# Altium footprint library Chip resistors.PcbLib: 36 footprints (part 3 of 3)
Each footprint in its own frame and in the unit in brackets; x right, y up, seen from the top. Pads: shape width x height; smd on the part's side, far side on the other; paste and mask are expansions set on the pad; w line width, h text height; cw(c..) or ccw(c..) is an arc to the next point about the centre after c.
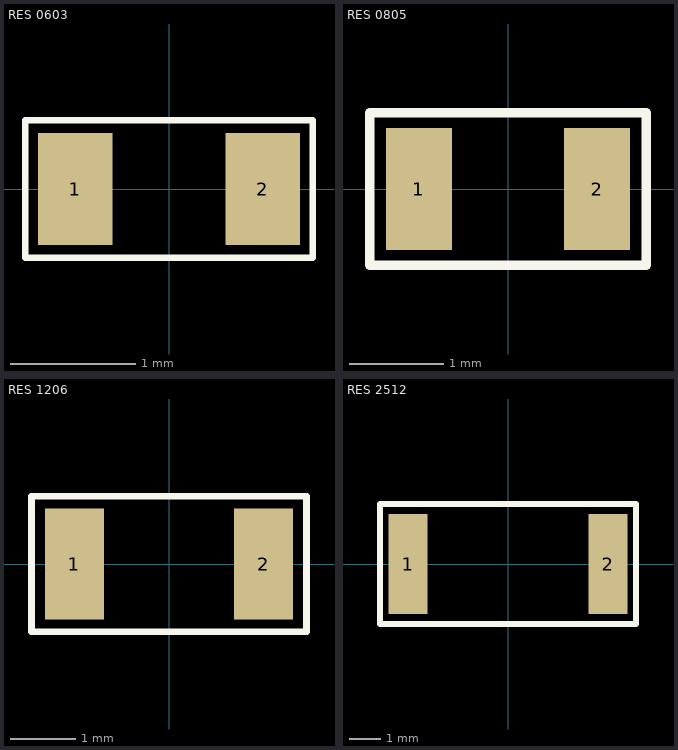
[diagram p2: the footprints below, top view; thin cyan lines are the x and y axes]

## RES 0603 [mm]
height 0.5
pads (2):
  rect 0.6x0.9 smd mask+0.05: 1(-0.75,0) 2(0.75,0)
Top Overlay:
  lines w0.05: -1.15,-0.55 1.15,-0.55 1.15,0.55 -1.15,0.55 -1.15,-0.55

## RES 0805 [mm] "Resistor 0805"
height 1
pads (2):
  rect 0.7x1.3 smd: 1(-0.95,0) 2(0.95,0)
Top Overlay:
  lines w0.1: -1.473,-0.813 1.473,-0.813 1.473,0.813 -1.473,0.813 -1.473,-0.813

## RES 1206 [mm]
height 0.55
pads (2):
  rect 0.9x1.7 smd: 1(-1.45,0) 2(1.45,0)
Top Overlay:
  lines w0.1: -2.108,-1.041 -2.108,1.041 2.108,1.041 2.108,-1.041 -2.108,-1.041

## RES 2512 [mil]
height 33.07
pads (2):
  rect 49x125 smd: 1(-125,0) 2(125,0)
Top Overlay:
  lines w7.87: -160,-75 -160,75 160,75 160,-75 -160,-75